# EAGLE library part TC59YM916KG* (library xdr-dram-toshiba)
XDR DRAM CSP x 16 Organization: Bank x Row x Column x Width = 8 x 4K x 1K x 16 Bandwith = BW (Mb/s), Latency (ns) Dram type................... Normal BW: ...... Sustained BW: ....... Latency TC59YM916BKG24A ......... 2400 ,.................... 4800 ........... 36 TC59YM916BKG32A ......... 3200 ..................... 6000 ........... 27 TC59YM916BKG32b ......... 3200 ..................... 6000 ........... 35 TC59YM916BKG32C ......... 3200 ..................... 6000 ........... 35 TC59YM916BKG40B ......... 4000 ..................... 8000 ........... 28 TC59YM916BKG40C ......... 4000 ..................... 8000 ........... 28 Source: 59YM916BKG_050622.pdf, Toshiba. Arto Kyyhkynen, artoky@dlc.fi
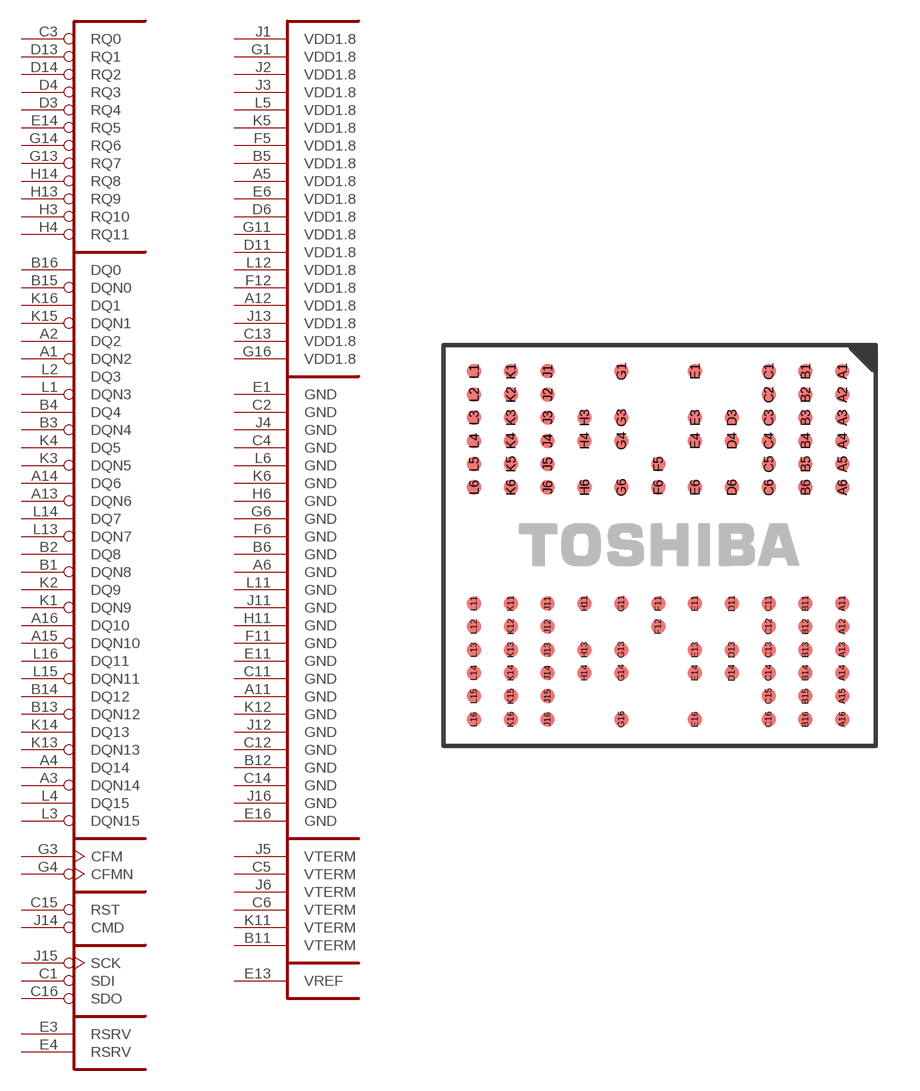
[diagram p0: symbol with the pads of P-TFBGA100-1415AZ(A); footprint P-TFBGA100-1415AZ(A)]

Designator prefix IC; gates G$1=TC59YM916BKGXXX G$2=TC59YM9168KG_PWRN

## TC59YM916KG24A, TC59YM916KG32A, TC59YM916KG32B, TC59YM916KG32C, TC59YM916KG40B, TC59YM916KG40C  [P-TFBGA100-1415AZ(A)]
A1  G$1:DQN2
A2  G$1:DQ2
A3  G$1:DQN14
A4  G$1:DQ14
A5  G$2:VDD1.8  pwr
A6  G$2:GND  pwr
A11  G$2:GND  pwr
A12  G$2:VDD1.8  pwr
A13  G$1:DQN6
A14  G$1:DQ6
A15  G$1:DQN10
A16  G$1:DQ10
B1  G$1:DQN8
B2  G$1:DQ8
B3  G$1:DQN4
B4  G$1:DQ4
B5  G$2:VDD1.8  pwr
B6  G$2:GND  pwr
B11  G$2:VTERM  pwr
B12  G$2:GND  pwr
B13  G$1:DQN12
B14  G$1:DQ12
B15  G$1:DQN0
B16  G$1:DQ0
C1  G$1:SDI  in
C2  G$2:GND  pwr
C3  G$1:RQ0  in
C4  G$2:GND  pwr
C5  G$2:VTERM  pwr
C6  G$2:VTERM  pwr
C11  G$2:GND  pwr
C12  G$2:GND  pwr
C13  G$2:VDD1.8  pwr
C14  G$2:GND  pwr
C15  G$1:RST  in
C16  G$1:SDO  out
D3  G$1:RQ4  in
D4  G$1:RQ3  in
D6  G$2:VDD1.8  pwr
D11  G$2:VDD1.8  pwr
D13  G$1:RQ1  in
D14  G$1:RQ2  in
E1  G$2:GND  pwr
E3  G$1:RSRV  nc
E4  G$1:RSRV  nc
E6  G$2:VDD1.8  pwr
E11  G$2:GND  pwr
E13  G$2:VREF  pwr
E14  G$1:RQ5  in
E16  G$2:GND  pwr
F5  G$2:VDD1.8  pwr
F6  G$2:GND  pwr
F11  G$2:GND  pwr
F12  G$2:VDD1.8  pwr
G1  G$2:VDD1.8  pwr
G3  G$1:CFM  in
G4  G$1:CFMN  in
G6  G$2:GND  pwr
G11  G$2:VDD1.8  pwr
G13  G$1:RQ7  in
G14  G$1:RQ6  in
G16  G$2:VDD1.8  pwr
H3  G$1:RQ10  in
H4  G$1:RQ11  in
H6  G$2:GND  pwr
H11  G$2:GND  pwr
H13  G$1:RQ9  in
H14  G$1:RQ8  in
J1  G$2:VDD1.8  pwr
J2  G$2:VDD1.8  pwr
J3  G$2:VDD1.8  pwr
J4  G$2:GND  pwr
J5  G$2:VTERM  pwr
J6  G$2:VTERM  pwr
J11  G$2:GND  pwr
J12  G$2:GND  pwr
J13  G$2:VDD1.8  pwr
J14  G$1:CMD  in
J15  G$1:SCK  in
J16  G$2:GND  pwr
K1  G$1:DQN9
K2  G$1:DQ9
K3  G$1:DQN5
K4  G$1:DQ5
K5  G$2:VDD1.8  pwr
K6  G$2:GND  pwr
K11  G$2:VTERM  pwr
K12  G$2:GND  pwr
K13  G$1:DQN13
K14  G$1:DQ13
K15  G$1:DQN1
K16  G$1:DQ1
L1  G$1:DQN3
L2  G$1:DQ3
L3  G$1:DQN15
L4  G$1:DQ15
L5  G$2:VDD1.8  pwr
L6  G$2:GND  pwr
L11  G$2:GND  pwr
L12  G$2:VDD1.8  pwr
L13  G$1:DQN7
L14  G$1:DQ7
L15  G$1:DQN11
L16  G$1:DQ11

## Footprint P-TFBGA100-1415AZ(A) (pad centres in mm)
pitch (0.8 x 1.27)mm, pad dia. 0.5mm
smd 0.5 x 0.5: A1 6.35,6.4; A2 6.35,5.6; A3 6.35,4.8; A4 6.35,4; A5 6.35,3.2; A6 6.35,2.4; A11 6.35,-1.6; A12 6.35,-2.4; A13 6.35,-3.2; A14 6.35,-4; A15 6.35,-4.8; A16 6.35,-5.6; B1 5.08,6.4; B2 5.08,5.6; B3 5.08,4.8; B4 5.08,4; B5 5.08,3.2; B6 5.08,2.4; B11 5.08,-1.6; B12 5.08,-2.4; B13 5.08,-3.2; B14 5.08,-4; B15 5.08,-4.8; B16 5.08,-5.6; C1 3.81,6.4; C2 3.81,5.6; C3 3.81,4.8; C4 3.81,4; C5 3.81,3.2; C6 3.81,2.4; C11 3.81,-1.6; C12 3.81,-2.4; C13 3.81,-3.2; C14 3.81,-4; C15 3.81,-4.8; C16 3.81,-5.6; D3 2.54,4.8; D4 2.54,4; D6 2.54,2.4; D11 2.54,-1.6; D13 2.54,-3.2; D14 2.54,-4; E1 1.27,6.4; E3 1.27,4.8; E4 1.27,4; E6 1.27,2.4; E11 1.27,-1.6; E13 1.27,-3.2; E14 1.27,-4; E16 1.27,-5.6; F5 0,3.2; F6 0,2.4; F11 0,-1.6; F12 0,-2.4; G1 -1.27,6.4; G3 -1.27,4.8; G4 -1.27,4; G6 -1.27,2.4; G11 -1.27,-1.6; G13 -1.27,-3.2; G14 -1.27,-4; G16 -1.27,-5.6; H3 -2.54,4.8; H4 -2.54,4; H6 -2.54,2.4; H11 -2.54,-1.6; H13 -2.54,-3.2; H14 -2.54,-4; J1 -3.81,6.4; J2 -3.81,5.6; J3 -3.81,4.8; J4 -3.81,4; J5 -3.81,3.2; J6 -3.81,2.4; J11 -3.81,-1.6; J12 -3.81,-2.4; J13 -3.81,-3.2; J14 -3.81,-4; J15 -3.81,-4.8; J16 -3.81,-5.6; K1 -5.08,6.4; K2 -5.08,5.6; K3 -5.08,4.8; K4 -5.08,4; K5 -5.08,3.2; K6 -5.08,2.4; K11 -5.08,-1.6; K12 -5.08,-2.4; K13 -5.08,-3.2; K14 -5.08,-4; K15 -5.08,-4.8; K16 -5.08,-5.6; L1 -6.35,6.4; L2 -6.35,5.6; L3 -6.35,4.8; L4 -6.35,4; L5 -6.35,3.2; L6 -6.35,2.4; L11 -6.35,-1.6; L12 -6.35,-2.4; L13 -6.35,-3.2; L14 -6.35,-4; L15 -6.35,-4.8; L16 -6.35,-5.6